# Altium footprint library KEMET_C340C105K1R5TA7303.PcbLib: 1 footprints
Each footprint in its own frame and in the unit in brackets; x right, y up, seen from the top. Pads: shape width x height; smd on the part's side, far side on the other; paste and mask are expansions set on the pad; w line width, h text height; cw(c..) or ccw(c..) is an arc to the next point about the centre after c.
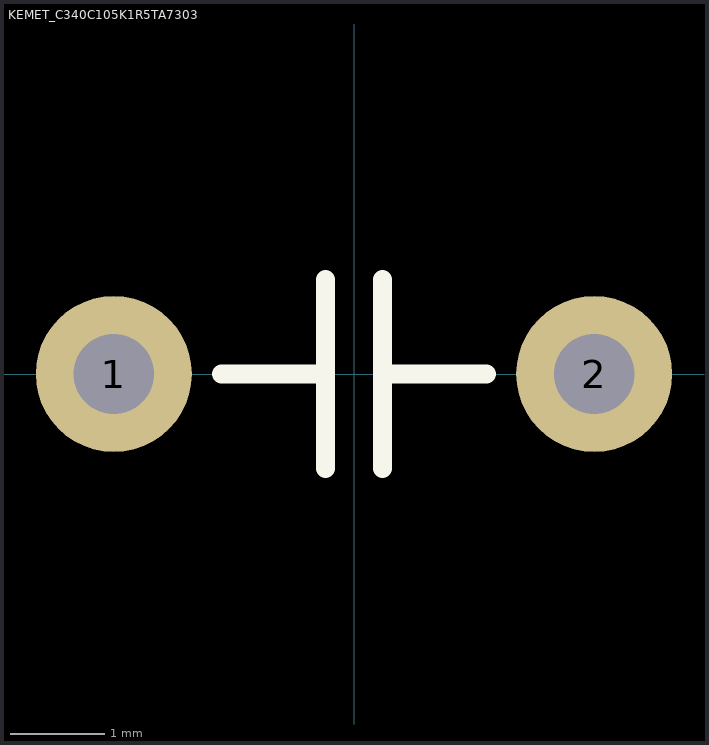
[diagram p0: the footprint, top view; thin cyan lines are the x and y axes]

## KEMET_C340C105K1R5TA7303 [mm] "KEMET Goldmax X7R 300 Series C340C105K1R5TA7303"
pads (2):
  round 1.65 hole 0.85 unplated: 1(-2.54,0) 2(2.54,0)
Top Overlay:
  lines w0.2: -1.4,0 -0.3,0 ; -0.3,-1 -0.3,1 ; 0.3,-1 0.3,1 ; 0.3,0 1.4,0
3D body "C340C105K1R5TA7303.step": height 10.47, standoff -17.69, extent -3.68,-2 3.68,2.075